# Altium footprint library Connector_Phoenix_SPT.PcbLib: 69 footprints (part 5 of 5)
Each footprint in its own frame and in the unit in brackets; x right, y up, seen from the top. Pads: shape width x height; smd on the part's side, far side on the other; paste and mask are expansions set on the pad; w line width, h text height; cw(c..) or ccw(c..) is an arc to the next point about the centre after c.
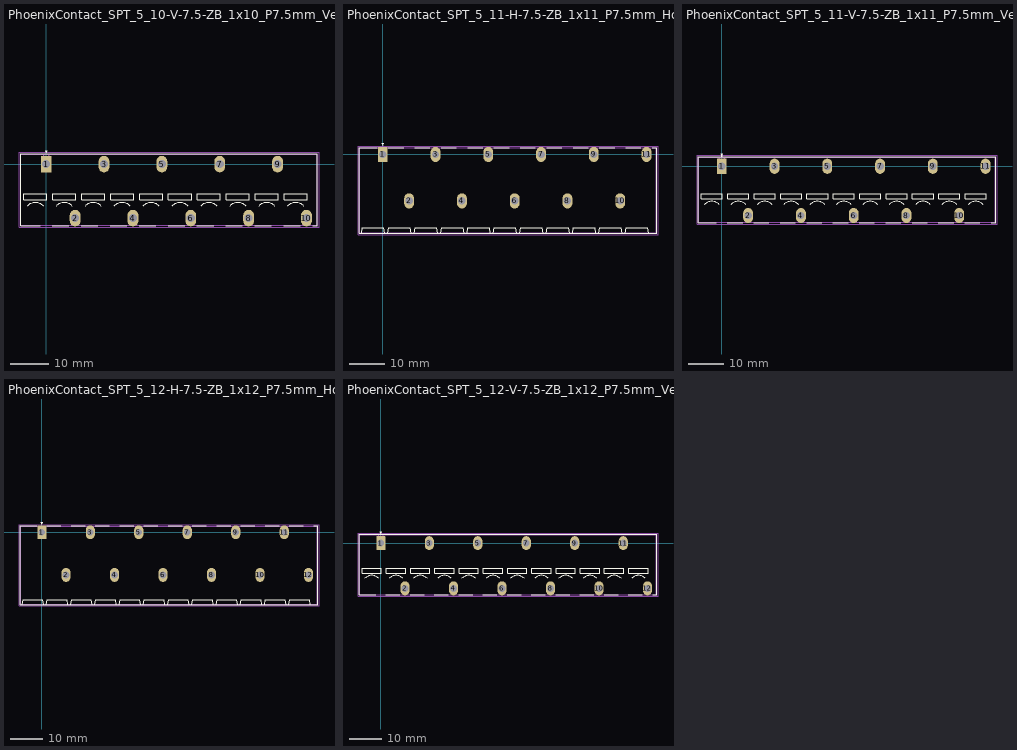
[diagram p4: the footprints below, top view; thin cyan lines are the x and y axes]

## PhoenixContact_SPT_5_10-V-7.5-ZB_1x10_P7.5mm_Vertical [mm]
pads (10):
  rrect9% 2.8x4.3 hole 2.1: 1(0,0)
  rrect100% 2.8x4.3 hole 2.1: 2(7.5,-14) 3(15,0) 4(22.5,-14) 5(30,0) 6(37.5,-14) 7(45,0) 8(52.5,-14) 9(60,0) 10(67.5,-14)
F.SilkS:
  lines w0.254: -4.921,-10.879 cw(c-2.8,-13) -0.679,-10.879 ; -1.6,-16.03 -6.66,-16.03 -6.66,2.69 70.36,2.69 70.36,-16.03 69.1,-16.03 ; 1.6,-16.03 5.9,-16.03 ; 2.579,-10.879 cw(c4.7,-13) 6.821,-10.879 ; 9.1,-16.03 13.4,-16.03 ; 10.079,-10.879 cw(c12.2,-13) 14.321,-10.879 ; 16.6,-16.03 20.9,-16.03 ; 17.579,-10.879 cw(c19.7,-13) 21.821,-10.879 ; 24.1,-16.03 28.4,-16.03 ; 25.079,-10.879 cw(c27.2,-13) 29.321,-10.879 ; 31.6,-16.03 35.9,-16.03 ; 32.579,-10.879 cw(c34.7,-13) 36.821,-10.879 ; 39.1,-16.03 43.4,-16.03 ; 40.079,-10.879 cw(c42.2,-13) 44.321,-10.879 ; 46.6,-16.03 50.9,-16.03 ; 47.579,-10.879 cw(c49.7,-13) 51.821,-10.879 ; 54.1,-16.03 58.4,-16.03 ; 55.079,-10.879 cw(c57.2,-13) 59.321,-10.879 ; 61.6,-16.03 65.9,-16.03 ; 62.579,-10.879 cw(c64.7,-13) 66.821,-10.879 ; -5.8,-9.25 0.2,-9.25 0.2,-7.75 -5.8,-7.75 -5.8,-9.25 ; -0.3,3.49 0.3,3.49 0,2.89 -0.3,3.49 ; 1.7,-9.25 7.7,-9.25 7.7,-7.75 1.7,-7.75 1.7,-9.25 ; 9.2,-9.25 15.2,-9.25 15.2,-7.75 9.2,-7.75 9.2,-9.25 ; 16.7,-9.25 22.7,-9.25 22.7,-7.75 16.7,-7.75 16.7,-9.25 ; 24.2,-9.25 30.2,-9.25 30.2,-7.75 24.2,-7.75 24.2,-9.25 ; 31.7,-9.25 37.7,-9.25 37.7,-7.75 31.7,-7.75 31.7,-9.25 ; 39.2,-9.25 45.2,-9.25 45.2,-7.75 39.2,-7.75 39.2,-9.25 ; 46.7,-9.25 52.7,-9.25 52.7,-7.75 46.7,-7.75 46.7,-9.25 ; 54.2,-9.25 60.2,-9.25 60.2,-7.75 54.2,-7.75 54.2,-9.25 ; 61.7,-9.25 67.7,-9.25 67.7,-7.75 61.7,-7.75 61.7,-9.25
Top Assembly:
  lines w0.254: -0.95,2.58 0,1.08 0.95,2.58 ; -6.55,-15.92 70.25,-15.92 70.25,2.58 -6.55,2.58 -6.55,-15.92
  text "'.Designator'" at 27.803,1.04 h1
Top Courtyard:
  lines w0.254: -7.05,-16.42 70.75,-16.42 70.75,3.08 -7.05,3.08 -7.05,-16.42
Top Designator:
  text ".Designator" at 24.232,-6.973 h1.52

## PhoenixContact_SPT_5_11-H-7.5-ZB_1x11_P7.5mm_Horizontal [mm]
pads (11):
  rrect9% 2.8x4.3 hole 2.1: 1(0,0)
  rrect100% 2.8x4.3 hole 2.1: 2(7.5,-13.2) 3(15,0) 4(22.5,-13.2) 5(30,0) 6(37.5,-13.2) 7(45,0) 8(52.5,-13.2) 9(60,0) 10(67.5,-13.2) 11(75,0)
F.SilkS:
  lines w0.254: -6.05,-22.41 -5.8,-20.91 0.2,-20.91 0.45,-22.41 ; -1.6,1.96 -6.66,1.96 -6.66,-22.41 77.86,-22.41 77.86,1.96 76.6,1.96 ; 1.45,-22.41 1.7,-20.91 7.7,-20.91 7.95,-22.41 ; 1.6,1.96 5.9,1.96 ; 8.95,-22.41 9.2,-20.91 15.2,-20.91 15.45,-22.41 ; 9.1,1.96 13.4,1.96 ; 16.45,-22.41 16.7,-20.91 22.7,-20.91 22.95,-22.41 ; 16.6,1.96 20.9,1.96 ; 23.95,-22.41 24.2,-20.91 30.2,-20.91 30.45,-22.41 ; 24.1,1.96 28.4,1.96 ; 31.45,-22.41 31.7,-20.91 37.7,-20.91 37.95,-22.41 ; 31.6,1.96 35.9,1.96 ; 38.95,-22.41 39.2,-20.91 45.2,-20.91 45.45,-22.41 ; 39.1,1.96 43.4,1.96 ; 46.45,-22.41 46.7,-20.91 52.7,-20.91 52.95,-22.41 ; 46.6,1.96 50.9,1.96 ; 53.95,-22.41 54.2,-20.91 60.2,-20.91 60.45,-22.41 ; 54.1,1.96 58.4,1.96 ; 61.45,-22.41 61.7,-20.91 67.7,-20.91 67.95,-22.41 ; 61.6,1.96 65.9,1.96 ; 68.95,-22.41 69.2,-20.91 75.2,-20.91 75.45,-22.41 ; 69.1,1.96 73.4,1.96 ; -0.3,3.15 0.3,3.15 0,2.55 -0.3,3.15
Top Assembly:
  lines w0.254: -0.95,1.85 0,0.35 0.95,1.85 ; -6.55,-22.3 77.75,-22.3 77.75,1.85 -6.55,1.85 -6.55,-22.3
  text "'.Designator'" at 31.553,0.31 h1
Top Courtyard:
  lines w0.254: -7.05,-22.8 78.25,-22.8 78.25,2.35 -7.05,2.35 -7.05,-22.8
Top Designator:
  text ".Designator" at 27.982,-10.333 h1.52

## PhoenixContact_SPT_5_11-V-7.5-ZB_1x11_P7.5mm_Vertical [mm]
pads (11):
  rrect9% 2.8x4.3 hole 2.1: 1(0,0)
  rrect100% 2.8x4.3 hole 2.1: 2(7.5,-14) 3(15,0) 4(22.5,-14) 5(30,0) 6(37.5,-14) 7(45,0) 8(52.5,-14) 9(60,0) 10(67.5,-14) 11(75,0)
F.SilkS:
  lines w0.254: -4.921,-10.879 cw(c-2.8,-13) -0.679,-10.879 ; -1.6,-16.03 -6.66,-16.03 -6.66,2.69 77.86,2.69 77.86,-16.03 76.6,-16.03 ; 1.6,-16.03 5.9,-16.03 ; 2.579,-10.879 cw(c4.7,-13) 6.821,-10.879 ; 9.1,-16.03 13.4,-16.03 ; 10.079,-10.879 cw(c12.2,-13) 14.321,-10.879 ; 16.6,-16.03 20.9,-16.03 ; 17.579,-10.879 cw(c19.7,-13) 21.821,-10.879 ; 24.1,-16.03 28.4,-16.03 ; 25.079,-10.879 cw(c27.2,-13) 29.321,-10.879 ; 31.6,-16.03 35.9,-16.03 ; 32.579,-10.879 cw(c34.7,-13) 36.821,-10.879 ; 39.1,-16.03 43.4,-16.03 ; 40.079,-10.879 cw(c42.2,-13) 44.321,-10.879 ; 46.6,-16.03 50.9,-16.03 ; 47.579,-10.879 cw(c49.7,-13) 51.821,-10.879 ; 54.1,-16.03 58.4,-16.03 ; 55.079,-10.879 cw(c57.2,-13) 59.321,-10.879 ; 61.6,-16.03 65.9,-16.03 ; 62.579,-10.879 cw(c64.7,-13) 66.821,-10.879 ; 69.1,-16.03 73.4,-16.03 ; 70.079,-10.879 cw(c72.2,-13) 74.321,-10.879 ; -5.8,-9.25 0.2,-9.25 0.2,-7.75 -5.8,-7.75 -5.8,-9.25 ; -0.3,3.49 0.3,3.49 0,2.89 -0.3,3.49 ; 1.7,-9.25 7.7,-9.25 7.7,-7.75 1.7,-7.75 1.7,-9.25 ; 9.2,-9.25 15.2,-9.25 15.2,-7.75 9.2,-7.75 9.2,-9.25 ; 16.7,-9.25 22.7,-9.25 22.7,-7.75 16.7,-7.75 16.7,-9.25 ; 24.2,-9.25 30.2,-9.25 30.2,-7.75 24.2,-7.75 24.2,-9.25 ; 31.7,-9.25 37.7,-9.25 37.7,-7.75 31.7,-7.75 31.7,-9.25 ; 39.2,-9.25 45.2,-9.25 45.2,-7.75 39.2,-7.75 39.2,-9.25 ; 46.7,-9.25 52.7,-9.25 52.7,-7.75 46.7,-7.75 46.7,-9.25 ; 54.2,-9.25 60.2,-9.25 60.2,-7.75 54.2,-7.75 54.2,-9.25 ; 61.7,-9.25 67.7,-9.25 67.7,-7.75 61.7,-7.75 61.7,-9.25 ; 69.2,-9.25 75.2,-9.25 75.2,-7.75 69.2,-7.75 69.2,-9.25
Top Assembly:
  lines w0.254: -0.95,2.58 0,1.08 0.95,2.58 ; -6.55,-15.92 77.75,-15.92 77.75,2.58 -6.55,2.58 -6.55,-15.92
  text "'.Designator'" at 31.553,1.04 h1
Top Courtyard:
  lines w0.254: -7.05,-16.42 78.25,-16.42 78.25,3.08 -7.05,3.08 -7.05,-16.42
Top Designator:
  text ".Designator" at 27.982,-6.973 h1.52

## PhoenixContact_SPT_5_12-H-7.5-ZB_1x12_P7.5mm_Horizontal [mm]
pads (12):
  rrect9% 2.8x4.3 hole 2.1: 1(0,0)
  rrect100% 2.8x4.3 hole 2.1: 2(7.5,-13.2) 3(15,0) 4(22.5,-13.2) 5(30,0) 6(37.5,-13.2) 7(45,0) 8(52.5,-13.2) 9(60,0) 10(67.5,-13.2) 11(75,0) 12(82.5,-13.2)
F.SilkS:
  lines w0.254: -6.05,-22.41 -5.8,-20.91 0.2,-20.91 0.45,-22.41 ; -1.6,1.96 -6.66,1.96 -6.66,-22.41 85.36,-22.41 85.36,1.96 84.1,1.96 ; 1.45,-22.41 1.7,-20.91 7.7,-20.91 7.95,-22.41 ; 1.6,1.96 5.9,1.96 ; 8.95,-22.41 9.2,-20.91 15.2,-20.91 15.45,-22.41 ; 9.1,1.96 13.4,1.96 ; 16.45,-22.41 16.7,-20.91 22.7,-20.91 22.95,-22.41 ; 16.6,1.96 20.9,1.96 ; 23.95,-22.41 24.2,-20.91 30.2,-20.91 30.45,-22.41 ; 24.1,1.96 28.4,1.96 ; 31.45,-22.41 31.7,-20.91 37.7,-20.91 37.95,-22.41 ; 31.6,1.96 35.9,1.96 ; 38.95,-22.41 39.2,-20.91 45.2,-20.91 45.45,-22.41 ; 39.1,1.96 43.4,1.96 ; 46.45,-22.41 46.7,-20.91 52.7,-20.91 52.95,-22.41 ; 46.6,1.96 50.9,1.96 ; 53.95,-22.41 54.2,-20.91 60.2,-20.91 60.45,-22.41 ; 54.1,1.96 58.4,1.96 ; 61.45,-22.41 61.7,-20.91 67.7,-20.91 67.95,-22.41 ; 61.6,1.96 65.9,1.96 ; 68.95,-22.41 69.2,-20.91 75.2,-20.91 75.45,-22.41 ; 69.1,1.96 73.4,1.96 ; 76.45,-22.41 76.7,-20.91 82.7,-20.91 82.95,-22.41 ; 76.6,1.96 80.9,1.96 ; -0.3,3.15 0.3,3.15 0,2.55 -0.3,3.15
Top Assembly:
  lines w0.254: -0.95,1.85 0,0.35 0.95,1.85 ; -6.55,-22.3 85.25,-22.3 85.25,1.85 -6.55,1.85 -6.55,-22.3
  text "'.Designator'" at 35.303,0.31 h1
Top Courtyard:
  lines w0.254: -7.05,-22.8 85.75,-22.8 85.75,2.35 -7.05,2.35 -7.05,-22.8
Top Designator:
  text ".Designator" at 31.732,-10.333 h1.52

## PhoenixContact_SPT_5_12-V-7.5-ZB_1x12_P7.5mm_Vertical [mm]
pads (12):
  rrect9% 2.8x4.3 hole 2.1: 1(0,0)
  rrect100% 2.8x4.3 hole 2.1: 2(7.5,-14) 3(15,0) 4(22.5,-14) 5(30,0) 6(37.5,-14) 7(45,0) 8(52.5,-14) 9(60,0) 10(67.5,-14) 11(75,0) 12(82.5,-14)
F.SilkS:
  lines w0.254: -4.921,-10.879 cw(c-2.8,-13) -0.679,-10.879 ; -1.6,-16.03 -6.66,-16.03 -6.66,2.69 85.36,2.69 85.36,-16.03 84.1,-16.03 ; 1.6,-16.03 5.9,-16.03 ; 2.579,-10.879 cw(c4.7,-13) 6.821,-10.879 ; 9.1,-16.03 13.4,-16.03 ; 10.079,-10.879 cw(c12.2,-13) 14.321,-10.879 ; 16.6,-16.03 20.9,-16.03 ; 17.579,-10.879 cw(c19.7,-13) 21.821,-10.879 ; 24.1,-16.03 28.4,-16.03 ; 25.079,-10.879 cw(c27.2,-13) 29.321,-10.879 ; 31.6,-16.03 35.9,-16.03 ; 32.579,-10.879 cw(c34.7,-13) 36.821,-10.879 ; 39.1,-16.03 43.4,-16.03 ; 40.079,-10.879 cw(c42.2,-13) 44.321,-10.879 ; 46.6,-16.03 50.9,-16.03 ; 47.579,-10.879 cw(c49.7,-13) 51.821,-10.879 ; 54.1,-16.03 58.4,-16.03 ; 55.079,-10.879 cw(c57.2,-13) 59.321,-10.879 ; 61.6,-16.03 65.9,-16.03 ; 62.579,-10.879 cw(c64.7,-13) 66.821,-10.879 ; 69.1,-16.03 73.4,-16.03 ; 70.079,-10.879 cw(c72.2,-13) 74.321,-10.879 ; 76.6,-16.03 80.9,-16.03 ; 77.579,-10.879 cw(c79.7,-13) 81.821,-10.879 ; -5.8,-9.25 0.2,-9.25 0.2,-7.75 -5.8,-7.75 -5.8,-9.25 ; -0.3,3.49 0.3,3.49 0,2.89 -0.3,3.49 ; 1.7,-9.25 7.7,-9.25 7.7,-7.75 1.7,-7.75 1.7,-9.25 ; 9.2,-9.25 15.2,-9.25 15.2,-7.75 9.2,-7.75 9.2,-9.25 ; 16.7,-9.25 22.7,-9.25 22.7,-7.75 16.7,-7.75 16.7,-9.25 ; 24.2,-9.25 30.2,-9.25 30.2,-7.75 24.2,-7.75 24.2,-9.25 ; 31.7,-9.25 37.7,-9.25 37.7,-7.75 31.7,-7.75 31.7,-9.25 ; 39.2,-9.25 45.2,-9.25 45.2,-7.75 39.2,-7.75 39.2,-9.25 ; 46.7,-9.25 52.7,-9.25 52.7,-7.75 46.7,-7.75 46.7,-9.25 ; 54.2,-9.25 60.2,-9.25 60.2,-7.75 54.2,-7.75 54.2,-9.25 ; 61.7,-9.25 67.7,-9.25 67.7,-7.75 61.7,-7.75 61.7,-9.25 ; 69.2,-9.25 75.2,-9.25 75.2,-7.75 69.2,-7.75 69.2,-9.25 ; 76.7,-9.25 82.7,-9.25 82.7,-7.75 76.7,-7.75 76.7,-9.25
Top Assembly:
  lines w0.254: -0.95,2.58 0,1.08 0.95,2.58 ; -6.55,-15.92 85.25,-15.92 85.25,2.58 -6.55,2.58 -6.55,-15.92
  text "'.Designator'" at 35.303,1.04 h1
Top Courtyard:
  lines w0.254: -7.05,-16.42 85.75,-16.42 85.75,3.08 -7.05,3.08 -7.05,-16.42
Top Designator:
  text ".Designator" at 31.732,-6.973 h1.52